# Altium footprint library 0154007.DR.PcbLib: 1 footprints
Each footprint in its own frame and in the unit in brackets; x right, y up, seen from the top. Pads: shape width x height; smd on the part's side, far side on the other; paste and mask are expansions set on the pad; w line width, h text height; cw(c..) or ccw(c..) is an arc to the next point about the centre after c.
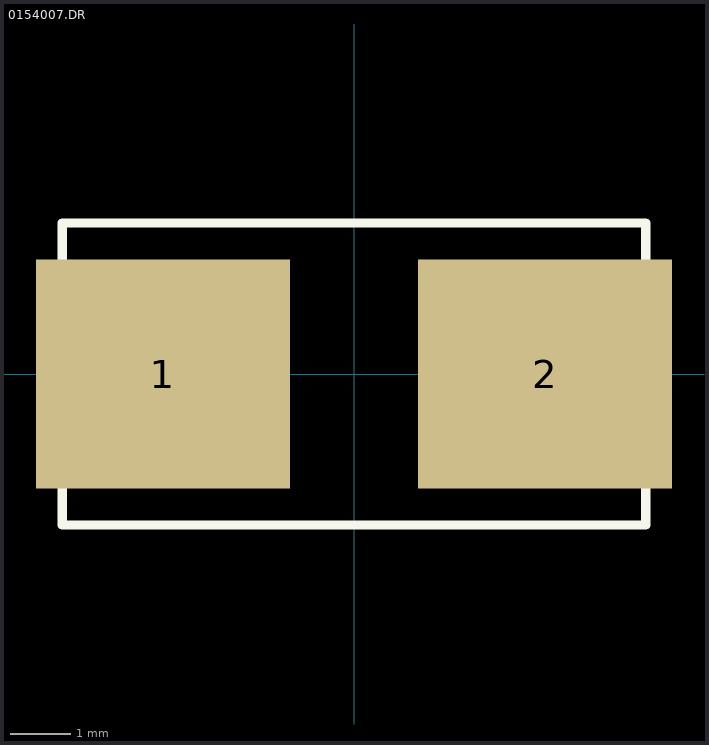
[diagram p0: the footprint, top view; thin cyan lines are the x and y axes]

## 0154007.DR [mm]
pads (2):
  rect 4.24x3.81 smd: 1(-3.185,0) 2(3.185,0)
Top Overlay:
  lines w0.152: -4.865,-2.515 -4.865,2.515 4.865,2.515 4.865,-2.515 -4.865,-2.515
3D body "step_temp.STEP": height 3.81, standoff 0, extent -4.865,-2.515 4.865,2.515